# EAGLE library part MAX846A (library DAC)
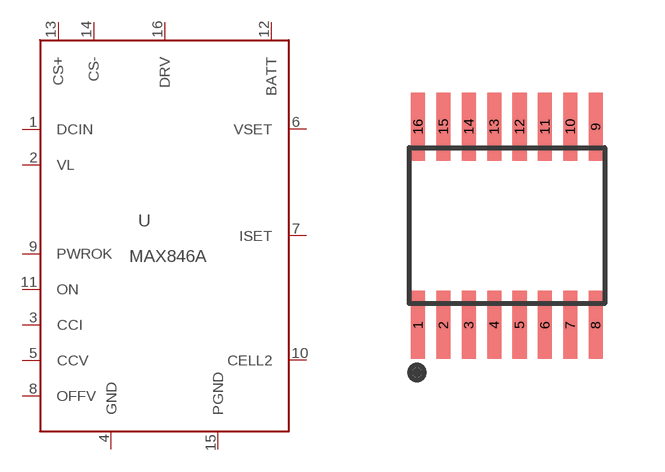
[diagram p13: symbol with the pads of QSOP16; footprint QSOP16]

Designator prefix U

## MAX846A  [QSOP16]
1  DCIN
2  VL
3  CCI
4  GND
5  CCV
6  VSET
7  ISET
8  OFFV
9  PWROK
10  CELL2
11  ON
12  BATT
13  CS+
14  CS-
15  PGND
16  DRV

## Footprint QSOP16 (pad centres in mm)
smd 0.35 x 1.7: 1 -2.223,-2.48; 2 -1.587,-2.48; 3 -0.953,-2.48; 4 -0.318,-2.48; 5 0.318,-2.48; 6 0.953,-2.48; 7 1.587,-2.48; 8 2.223,-2.48; 9 2.223,2.48; 10 1.587,2.48; 11 0.953,2.48; 12 0.318,2.48; 13 -0.318,2.48; 14 -0.953,2.48; 15 -1.587,2.48; 16 -2.223,2.48